# Altium integrated library CL21B105MBFNNNE.IntLib: 1 symbol
Pins are listed as number, name and electrical type; pins without a type are passive.

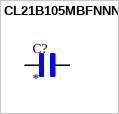
[diagram p0: symbol CL21B105MBFNNNE]

## CL21B105MBFNNNE
designator C?
1 ÂµF Â±20% 50V Ceramic Capacitor X7R 0805 (2012 Metric); MF: Samsung; MP: CL21B105MBFNNNE; SnapEDA_Link: https://www.snapeda.com/parts/CL21B105MBFNNNE/Samsung/view-part/?ref=snap; Package: SMD-2 Samsung; Value: *; Check_prices: https://www.snapeda.com/parts/CL21B105MBFNNNE/Samsung/view-part/?ref=eda
footprint CAPC2012X135N
pins: 1, 2